# Altium footprint library HC-49S.PcbLib: 1 footprints
Each footprint in its own frame and in the unit in brackets; x right, y up, seen from the top. Pads: shape width x height; smd on the part's side, far side on the other; paste and mask are expansions set on the pad; w line width, h text height; cw(c..) or ccw(c..) is an arc to the next point about the centre after c.
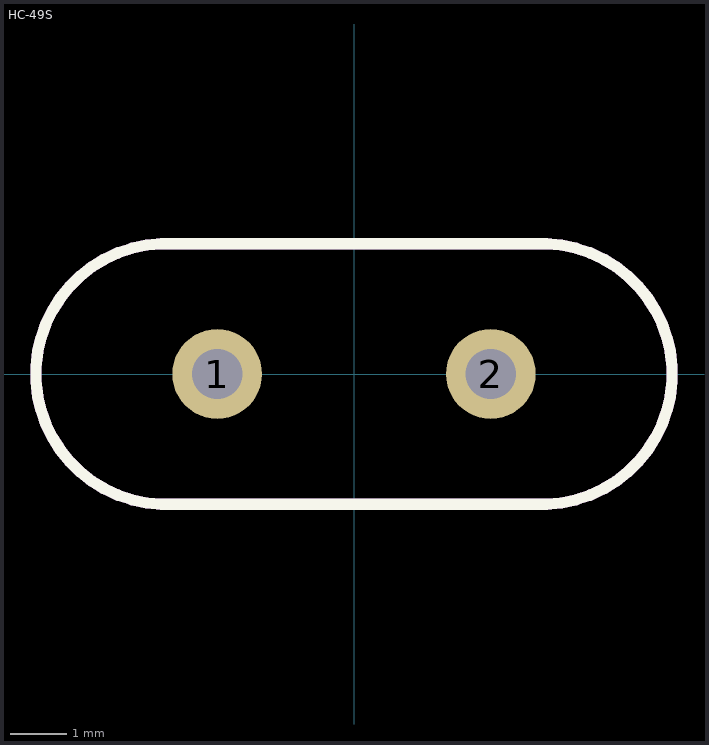
[diagram p0: the footprint, top view; thin cyan lines are the x and y axes]

## HC-49S [mm]
height 5
pads (2):
  round 1.6 hole 0.9: 1(-2.44,0) 2(2.44,0)
Top Overlay:
  lines w0.2: -3.433,-2.324 cw(c-3.35,0) -3.433,2.324 ; -3.4,-2.325 3.4,-2.325 ; -3.4,2.325 3.4,2.325 ; 3.433,-2.324 ccw(c3.35,0) 3.433,2.324
Mechanical 7:
  lines w0.2: -3.433,-2.324 cw(c-3.35,0) -3.433,2.324 ; -3.4,-2.325 3.4,-2.325 ; -3.4,2.325 3.4,2.325 ; 3.433,-2.324 ccw(c3.35,0) 3.433,2.324
3D body "HC-49S.stp": height 4, standoff -3, extent -5.6,-2.425 5.6,2.425